# Altium footprint library RUssery.PcbLib: 36 footprints (part 3 of 3)
Each footprint in its own frame and in the unit in brackets; x right, y up, seen from the top. Pads: shape width x height; smd on the part's side, far side on the other; paste and mask are expansions set on the pad; w line width, h text height; cw(c..) or ccw(c..) is an arc to the next point about the centre after c.
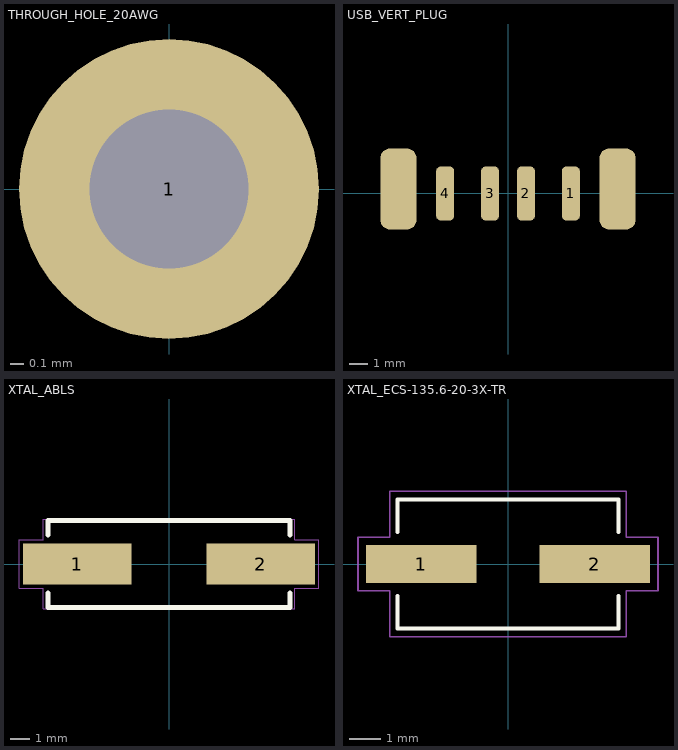
[diagram p2: the footprints below, top view; thin cyan lines are the x and y axes]

## THROUGH_HOLE_20AWG [mm] "20AWG clearance hole"
pads (1):
  round 2.2 hole 1.168: 1(0,0)

## USB_VERT_PLUG [mm] "USB TYPE-A PLUG, VERTICAL MOUNT"
pads (6):
  rrect50% 1x3 smd: 1(3.5,0) 2(1,0) 3(-1,0) 4(-3.5,0)
  rrect50% 2x4.5 smd: ""(-6.1,0.25) ""(6.1,0.25)
3D body "480372200.stp": height 18.76, standoff -2.19, extent -6.025,-2.25 6.025,2.25

## XTAL_ABLS [mm] "Crystal, Abracon ABSL series"
pads (2):
  rect 5.6x2.1 smd: 1(-4.75,0) 2(4.75,0)
Top Overlay:
  lines w0.254: -6.25,-1.5 -6.25,-2.25 6.25,-2.25 6.25,-1.5 ; -6.25,1.5 -6.25,2.25 6.25,2.25 6.25,1.5
Mechanical 15:
  lines w0.05: -7.75,-1.25 -7.75,1.25 -6.5,1.25 -6.5,2.3 6.5,2.3 6.5,1.25 7.75,1.25 7.75,-1.25 6.5,-1.25 6.5,-2.3 -6.5,-2.3 -6.5,-1.25 -7.75,-1.25
3D body "ABLS.STEP": height 4.06, standoff -0.1, extent -6.35,-2.349 6.35,2.35

## XTAL_ECS-135.6-20-3X-TR [mm]
pads (2):
  rect 3.5x1.2 smd: 1(-2.75,0) 2(2.75,0)
Top Overlay:
  lines w0.127: -3.5,-1.01 -3.5,-2.05 3.5,-2.05 3.5,-1.01 ; -3.5,1.01 -3.5,2.05 3.5,2.05 3.5,1.01
Mechanical 15:
  lines w0.05: -4.75,-0.85 -3.75,-0.85 -3.75,-2.3 3.75,-2.3 3.75,-0.85 4.75,-0.85 4.75,0.85 3.75,0.85 3.75,2.3 -3.75,2.3 -3.75,0.85 -4.75,0.85 -4.75,-0.85
3D body "ECS-120-20-3X-EN-TR--3DModel-STEP-40055.STEP": height 2.3, standoff 0, extent -3.8,-2.05 3.8,2.05